# Altium schematic symbol library MEM2075-00-140-01-A.SchLib: 1 symbol
Pins are listed as number, name and electrical type; pins without a type are passive.

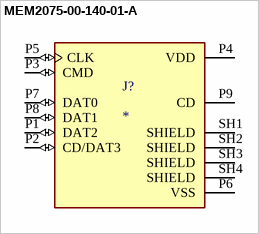
[diagram p0: symbol MEM2075-00-140-01-A]

## MEM2075-00-140-01-A
designator J?
Micro SD Memory Card Connector, 1.4mm Profile SMT, Push-Push, with Normally open Switch; MP: MEM2075-00-140-01-A; Value: *; Price: None; Package: None; Availability: Unavailable
footprint GCT_MEM2075-00-140-01-A
pins: P1 DAT2 (io), P2 CD/DAT3 (io), P3 CMD (io), P4 VDD (power), P5 CLK (io), P6 VSS (power), P7 DAT0 (io), P8 DAT1 (io), P9 CD, SH1 SHIELD (power), SH2 SHIELD (power), SH3 SHIELD (power), SH4 SHIELD (power)